# Altium schematic symbol library Schlib1.SchLib: 34 symbols
Pins are listed as number, name and electrical type; pins without a type are passive.

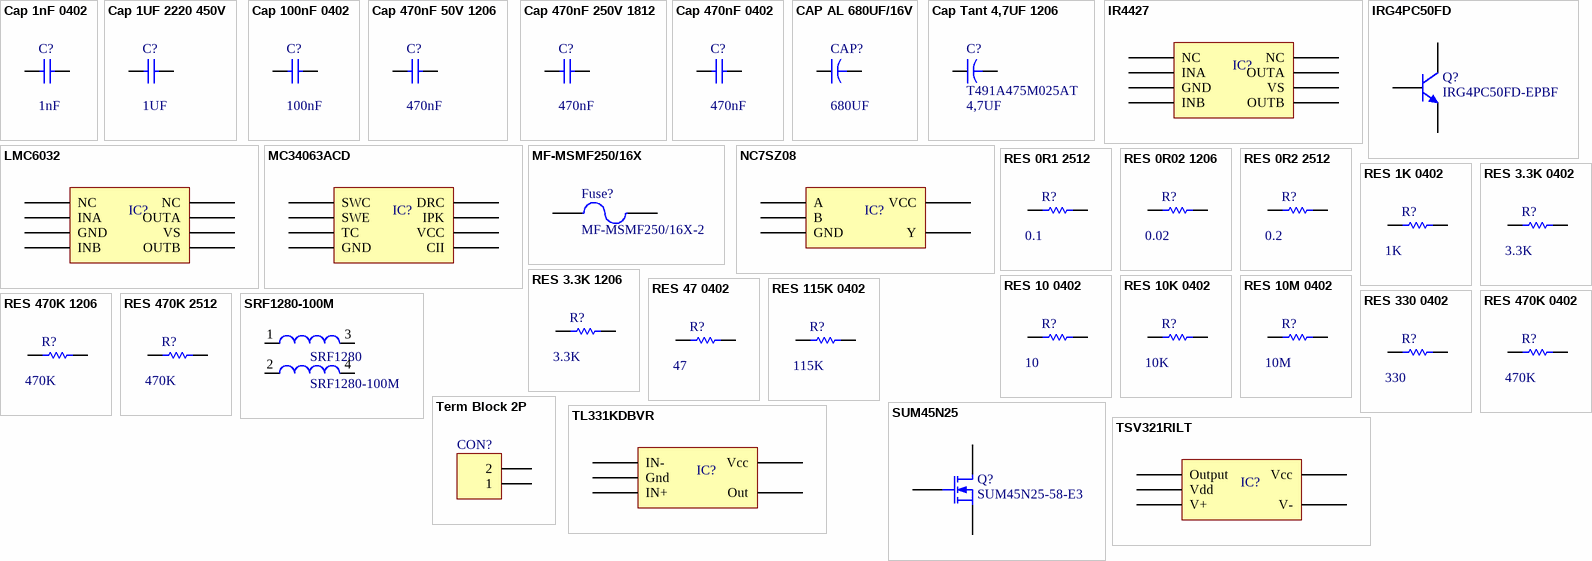
[diagram p0: symbols Cap 1nF 0402 to TSV321RILT]

## Cap 1nF 0402
designator C?, comment value 1nF  (hidden comment: GRM155R71H102KA01D)
1000pF 50V Ceramic Capacitor X7R 0402 (1005 Metric) 0.039" L x 0.020" W (1.00mm x 0.50mm)
footprint CAP-0402
simulation model Model Name (Model Description)
pins: 1, 2

## Cap 1UF 2220 450V
designator C?, comment value 1UF  (hidden comment: CGA9P4X7T2W105M250KE)
1µF 450V Ceramic Capacitor X7T 2220 (5750 Metric) 0.224" L x 0.197" W (5.70mm x 5.00mm)
footprint CAP-2220 (Chip Capacitor, 2-Leads, Body 5,75x5,00mm, IPC Medium Density)
simulation model Model Name (Model Description)
pins: 1, 2

## Cap 100nF 0402
designator C?, comment value 100nF  (hidden comment: GRM155R71C104KA88D)
0.10µF 16V Ceramic Capacitor X7R 0402 (1005 Metric) 0.039" L x 0.020" W (1.00mm x 0.50mm)
footprint CAP-0402
simulation model Model Name (Model Description)
pins: 1, 2

## Cap 470nF 50V 1206
designator C?, comment value 470nF  (hidden comment: C1206C474K5NACTU)
0.47µF 50V Ceramic Capacitor X8L 1206 (3216 Metric) 0.126" L x 0.063" W (3.20mm x 1.60mm)
footprint CAP-1206 KEMET (Chip Resistor, 2-Leads, Body 3,20x1,60mm, IPC Medium Density)
simulation model Model Name (Model Description)
pins: 1, 2

## Cap 470nF 250V 1812
designator C?, comment value 470nF  (hidden comment: C4532X7R2E474K230KA)
0.47µF 250V Ceramic Capacitor X7R 1812 (4532 Metric) 0.177" L x 0.126" W (4.50mm x 3.20mm)
footprint CAP-1812 TDK (Chip Capacitor, 2-Leads, Body 4,60x3,20mm, IPC Medium Density)
simulation model Model Name (Model Description)
pins: 1, 2

## Cap 470nF 0402
designator C?, comment value 470nF  (hidden comment: GRM155R61A474KE15D)
0.47µF 10V Ceramic Capacitor X5R 0402 (1005 Metric) 0.039" L x 0.020" W (1.00mm x 0.50mm)
footprint CAP-0402
simulation model Model Name (Model Description)
pins: 1, 2

## CAP AL 680UF/16V
designator CAP?, comment value 680UF  (hidden comment: EEE-FK1C681GP)
Aluminum Electrolytic Capacitors - SMD Al Lytic Cap SMT FK Series 105C
footprint Cap Al Size G - Panasonic (Aluminum Electrolytic Capacitor, Body 10,30x10,30x10,50mm, IPC Low Density)
simulation model Model Name (Model Description)
pins: 1, 2

## Cap Tant 4,7UF 1206
designator C?, comment T491A475M025AT  value 4,7UF
4.7µF Molded Tantalum Capacitors 25V 1206 (3216 Metric) 6 Ohm 0.126" L x 0.063" W (3.20mm x 1.60mm)
footprint CAP Tant 1206 Kemet (Molded Capacitor, 2-Leads, Body 3,20x1,60mm, IPC Medium Density)
simulation model Model Name (Model Description)
pins: 1, 2

## IR4427
designator IC?, comment IR4427STRPBF  (value not drawn)
IC DRIVER DUAL LOW SIDE 8SOIC
footprint SOIC8-INFINEON (SOIC, 8-Leads, Body 4,89x3,90mm, Pitch 1,27mm, IPC Medium Density)
pins: 1 NC, 2 INA, 3 GND, 4 INB, 5 OUTB, 6 VS, 7 OUTA, 8 NC

## IRG4PC50FD
designator Q?, comment IRG4PC50FD-EPBF
IGBT 600V 70A 200W TO247AD
footprint TO-247AC
pins: 1 B, 2 C, 3 E

## LMC6032
designator IC?, comment LMC6032IMX/NOPB  (value not drawn)
IC OPAMP GP 1.4MHZ 8SOIC
footprint SOIC8-TEXAS (SOIC, 8-Leads, Body 4,90x3,90mm, Pitch 1,27mm, IPC Medium Density)
pins: 1 NC, 2 INA, 3 GND, 4 INB, 5 OUTB, 6 VS, 7 OUTA, 8 NC

## MC34063ACD
designator IC?  (value not drawn)
Buck, Boost Switching Regulator IC Positive or Negative Adjustable 1.25V 1 Output 1.5A (Switch) 8-SOIC (0.154", 3.90mm Width)
footprint SOIC8-STM (SOIC, 8-Leads, Body 4,90x3,90mm, Pitch 1,27mm, IPC Medium Density)
pins: 1 SWC, 2 SWE, 3 TC, 4 GND, 5 CII, 6 VCC, 7 IPK, 8 DRC

## MF-MSMF250/16X
designator Fuse?, comment MF-MSMF250/16X-2
PTC RESETTABLE
footprint 1812-MSMF Bourns2 (Chip Diode, 2-Leads, Body 4,60x3,24mm, IPC Medium Density)
pins: 1, 2

## NC7SZ08
designator IC?  (value not drawn)
AND Gate IC 1 Channel SOT-23-5
footprint SOT23-FAIRCHILD (SOT23, 5-Leads, Body 2,90x2,80mm, Pitch 0,95mm, IPC Medium Density)
pins: 1 A, 2 B, 3 GND, 4 Y, 5 VCC

## RES 0R1 2512
designator R?, comment value 0.1  (hidden comment: CRA2512-FZ-R100ELF)
RES SMD 0.1 OHM 1% 3W 2512
footprint RES-2512 BOURNS CRA (Chip Resistor, 2-Leads, Body 6,45x3,35mm, IPC Medium Density)
simulation model Model Name (Model Description)
pins: 1, 2

## RES 0R02 1206
designator R?, comment value 0.02  (hidden comment: PF1206FRF070R02L)
RES SMD 0.02 OHM 1% 1/4W 1206
footprint RES-1206
simulation model Model Name (Model Description)
pins: 1, 2

## RES 0R2 2512
designator R?, comment value 0.2  (hidden comment: CRM2512-FX-R200ELF)
RES SMD 0.2 OHM 1% 2W 2512
footprint RES-2512 BOURNS CRM (Chip Resistor, 2-Leads, Body 6,30x3,10mm, IPC Medium Density)
simulation model Model Name (Model Description)
pins: 1, 2

## RES 1K 0402
designator R?, comment value 1K  (hidden comment: RC0402JR-071KL)
RES SMD 1K OHM 5% 1/16W 0402
footprint RES-0402
simulation model Model Name (Model Description)
pins: 1, 2

## RES 3.3K 0402
designator R?, comment value 3.3K  (hidden comment: RC0402JR-073K3L)
RES SMD 3.3K OHM 5% 1/16W 0402
footprint RES-0402
simulation model Model Name (Model Description)
pins: 1, 2

## RES 3.3K 1206
designator R?, comment value 3.3K  (hidden comment: RC1206JR-073K3L)
RES SMD 3.3K OHM 5% 1/4W 1206
footprint RES-1206
simulation model Model Name (Model Description)
pins: 1, 2

## RES 10 0402
designator R?, comment value 10  (hidden comment: RC0402JR-0710RL)
RES SMD 10 OHM 5% 1/16W 0402
footprint RES-0402
simulation model Model Name (Model Description)
pins: 1, 2

## RES 10K 0402
designator R?, comment value 10K  (hidden comment: RC0402JR-0710KL)
RES SMD 10K OHM 5% 1/16W 0402
footprint RES-0402
simulation model Model Name (Model Description)
pins: 1, 2

## RES 10M 0402
designator R?, comment value 10M  (hidden comment: RC0402FR-0710ML)
RES SMD 10M OHM 1% 1/16W 0402
footprint RES-0402
simulation model Model Name (Model Description)
pins: 1, 2

## RES 47 0402
designator R?, comment value 47  (hidden comment: RC0402JR-0747RL)
RES SMD 47 OHM 5% 1/16W 0402
footprint RES-0402
simulation model Model Name (Model Description)
pins: 1, 2

## RES 115K 0402
designator R?, comment value 115K  (hidden comment: RC0402FR-07115KL)
RES SMD 115K OHM 1% 1/16W 0402
footprint RES-0402
simulation model Model Name (Model Description)
pins: 1, 2

## RES 330 0402
designator R?, comment value 330  (hidden comment: RC0402JR-07330RL)
RES SMD 330 OHM 5% 1/16W 0402
footprint RES-0402
simulation model Model Name (Model Description)
pins: 1, 2

## RES 470K 0402
designator R?, comment value 470K  (hidden comment: RC0402JR-07470KL)
RES SMD 470K OHM 5% 1/16W 0402
footprint RES-0402
simulation model Model Name (Model Description)
pins: 1, 2

## RES 470K 1206
designator R?, comment value 470K  (hidden comment: RC1206FR-07470KL)
RES SMD 470K OHM 1% 1/4W 1206
footprint RES-1206
simulation model Model Name (Model Description)
pins: 1, 2

## RES 470K 2512
designator R?, comment value 470K  (hidden comment: CRCW2512470KJNEG)
RES SMD 470K OHM 5% 1W 2512
footprint RES-2512 VISHAY (Chip Resistor, 2-Leads, Body 6,30x3,15mm, IPC Medium Density)
simulation model Model Name (Model Description)
pins: 1, 2

## SRF1280-100M
designator SRF1280
Shielded 2 Coil Inductor Array 40µH Inductance - Connected in Series 10µH Inductance - Connected in Parallel 24.1 mOhm Max DC Resistance (DCR) - Parallel 6.04A Nonstandard
footprint SRF1280-100M-PCB
pins: 1, 2, 3, 4

## SUM45N25
designator Q?, comment SUM45N25-58-E3
MOSFET N-CH 250V 45A D2PAK
footprint TO-263 Vishay (D2-PAK, 3-Pads, Body 7,93x8,69mm (max), IPC Medium Density)
pins: 1 G, 2 D, 3 S

## Term Block 2P
designator CON?, comment OSTTA024163  (value not drawn)
2 Position Wire to Board Terminal Block Horizontal with Board 0.200" (5.08mm) Through Hole
footprint Term Block 2P
pins: 1, 2

## TL331KDBVR
designator IC?  (value not drawn)
IC DIFF COMPARATOR SNGL SOT23-5
footprint SOT23-TEXAS (SOT23, 5-Leads, Body 2,90x2,80mm, Pitch 0,95mm, IPC Medium Density)
pins: 1 IN-, 2 Gnd, 3 IN+, 4 Out, 5 Vcc

## TSV321RILT
designator IC?  (value not drawn)
IC OPAMP GP 1.4MHZ RRO SOT23-5
footprint SOT23-STM (SOT23, 5-Leads, Body 2,90x2,80mm, Pitch 0,95mm, IPC Medium Density)
pins: 1 Output, 2 Vdd, 3 V+, 4 V-, 5 Vcc